# EAGLE library part AD8375 (library NewSDR)
Analog Devices Ultralow Distortion IF VGA
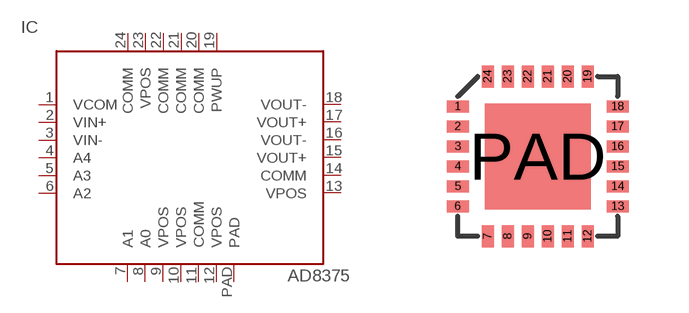
[diagram p151: symbol with the pads of LFCSP24; footprint LFCSP24]

Designator prefix IC

## AD8375  [LFCSP24]
1  VCOM
2  VIN+
3  VIN-
4  A4
5  A3
6  A2
7  A1
8  A0
9  VPOS
10  VPOS
11  COMM
12  VPOS
13  VPOS
14  COMM
15  VOUT+
16  VOUT-
17  VOUT+
18  VOUT-
19  PWUP
20  COMM
21  COMM
22  COMM
23  VPOS
24  COMM
PAD  PAD  pwr

## Footprint LFCSP24 (pad centres in mm)
smd 0.55 x 0.3: 1 -2,1.25; 2 -2,0.75; 3 -2,0.25; 4 -2,-0.25; 5 -2,-0.75; 6 -2,-1.25; 13 2,-1.25; 14 2,-0.75; 15 2,-0.25; 16 2,0.25; 17 2,0.75; 18 2,1.25
smd 0.3 x 0.55: 7 -1.25,-2; 8 -0.75,-2; 9 -0.25,-2; 10 0.25,-2; 11 0.75,-2; 12 1.25,-2; 19 1.25,2; 20 0.75,2; 21 0.25,2; 22 -0.25,2; 23 -0.75,2; 24 -1.25,2
smd 2.65 x 2.65: PAD 0,0